# EAGLE library part INA190 (library SW_Sensors)
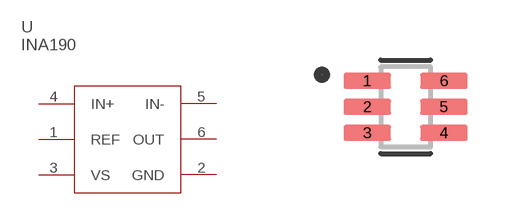
[diagram p1: symbol with the pads of SC-70; footprint SC-70]

Designator prefix U

## INA190 (CATEGORY: Current; DESCRIPTION: Current Sense Amplifier 1 Circuit Rail-to-Rail SC-70-6; MFGS: Texas Instruments,Texas Instruments; MPNS: INA190A5IDCKT,INA190A5IDCKR; PACKAGE: SC-70-6; PART_NUMBER: INA190A5IDCK; SW_PART_NUMBER: SW0000869)  [SC-70]
1  REF  out
2  GND  pas
3  VS  in
4  IN+  in
5  IN-  in
6  OUT  out

## Footprint SC-70 (pad centres in mm)
smd 1.19 x 0.4: 1 -0.96,0.65; 2 -0.96,0; 3 -0.96,-0.65; 4 0.96,-0.65; 5 0.96,0; 6 0.96,0.65